# Altium schematic symbol library CONN_uSD_CARD_SMD.SchLib: 1 symbol
Pins are listed as number, name and electrical type; pins without a type are passive.

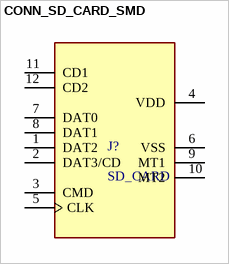
[diagram p0: symbol CONN_SD_CARD_SMD]

## CONN_SD_CARD_SMD
designator J?, comment SD_CARD
8 Position Card Connector Secure Digital - microSDâ„¢ Surface Mount, Right Angle Gold; MP: 2908-05WB-MG; MF: 3M; SnapEDA_Link: https://www.snapeda.com/parts/2908-05WB-MG/3M%20%28TC%29/view-part/292159/?ref=snap; Value: *; Package: None; Digi-Key_Part_Number: 3M5607CT-ND; Digi-Key_Purchase_URL: https://www.digikey.in/product-detail/en/3m/2908-05WB-MG/3M5607CT-ND/1242498?utm_source=snapeda&utm_medium=aggregator&utm_campaign=symbol; Supplier 1: Digi-Key; Supplier Part Number 1: 114-00841-68-1-ND
footprint CONN_uSD_CARD_SMD
pins: 1 DAT2, 2 DAT3/CD, 3 CMD, 4 VDD, 5 CLK, 6 VSS (power), 7 DAT0, 8 DAT1, 9 MT1, 10 MT2, 11 CD1 (hiz), 12 CD2